# Altium schematic symbol library F-Protective Device.SCHLIB: 1 symbol
Pins are listed as number, name and electrical type; pins without a type are passive.

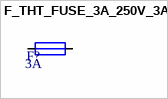
[diagram p0: symbol F_THT_FUSE_3A_250V_3AG]

## F_THT_FUSE_3A_250V_3AG
designator F?  value 3A  (hidden comment: F_THT_FUSE_3A_250V_3AG)
FUSE 250V FAST 3AG 3A; Supplier - Digikey: F1761-ND & 507-1702-ND
footprint THT_FUSE_HOLDER_3AG
pins: 1, 2